# Altium footprint library con-omron.PCBLIB: 109 footprints (part 7 of 8)
Each footprint in its own frame and in the unit in brackets; x right, y up, seen from the top. Pads: shape width x height; smd on the part's side, far side on the other; paste and mask are expansions set on the pad; w line width, h text height; cw(c..) or ccw(c..) is an arc to the next point about the centre after c.
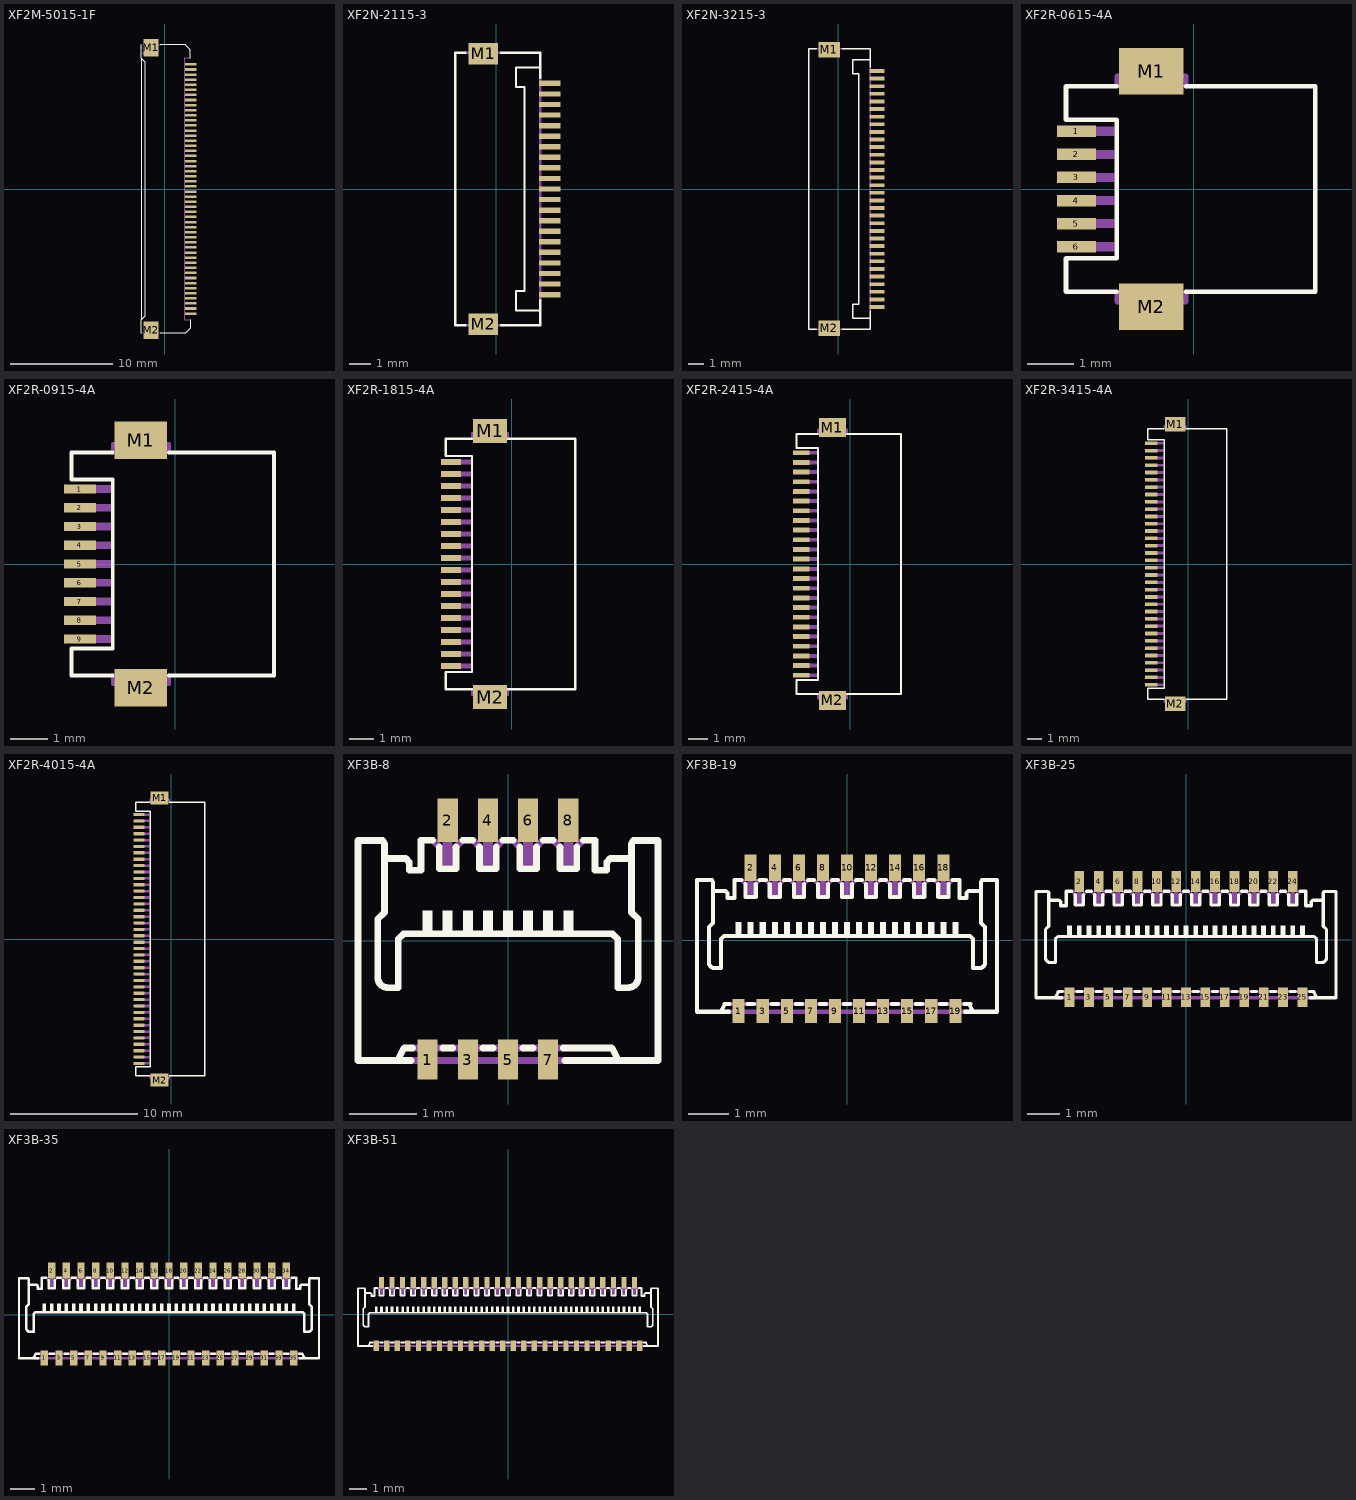
[diagram p6: the footprints below, top view; thin cyan lines are the x and y axes]

## XF2M-5015-1F [mm]
pads (52):
  rect 1.1x0.25 smd: 1(2.54,12.25) 2(2.54,11.75) 3(2.54,11.25) 4(2.54,10.75) 5(2.54,10.25) 6(2.54,9.75) 7(2.54,9.25) 8(2.54,8.75) 9(2.54,8.25) 10(2.54,7.75) 11(2.54,7.25) 12(2.54,6.75) 13(2.54,6.25) 14(2.54,5.75) 15(2.54,5.25) 16(2.54,4.75) 17(2.54,4.25) 18(2.54,3.75) 19(2.54,3.25) 20(2.54,2.75) 21(2.54,2.25) 22(2.54,1.75) 23(2.54,1.25) 24(2.54,0.75) 25(2.54,0.25) 26(2.54,-0.25) 27(2.54,-0.75) 28(2.54,-1.25) 29(2.54,-1.75) 30(2.54,-2.25) 31(2.54,-2.75) 32(2.54,-3.25) 33(2.54,-3.75) 34(2.54,-4.25) 35(2.54,-4.75) 36(2.54,-5.25) 37(2.54,-5.75) 38(2.54,-6.25) 39(2.54,-6.75) 40(2.54,-7.25) 41(2.54,-7.75) 42(2.54,-8.25) 43(2.54,-8.75) 44(2.54,-9.25) 45(2.54,-9.75) 46(2.54,-10.25) 47(2.54,-10.75) 48(2.54,-11.25) 49(2.54,-11.75) 50(2.54,-12.25)
  rect 1.5x1.7 smd: M1(-1.36,13.9) M2(-1.36,-13.9)
Top Overlay:
  lines w0.102: -2.31,-14.2 -2.31,-12.85 ; -2.31,14.2 -2.31,12.85 ; -0.46,-14.2 1.99,-14.2 2.49,-13.7 2.49,-12.85 ; -0.46,14.2 1.99,14.2 2.49,13.7 2.49,12.85 ; -2.31,-12.85 -1.91,-12.45 -1.91,12.45 -2.31,12.85 ; -2.31,-12.85 -2.31,12.85
Top Solder:
  rectangle: 1.965,12.1 3.115,12.4
  rectangle: 1.965,11.6 3.115,11.9
  rectangle: 1.965,11.1 3.115,11.4
  rectangle: 1.965,10.6 3.115,10.9
  rectangle: 1.965,10.1 3.115,10.4
  rectangle: 1.965,9.6 3.115,9.9
  rectangle: 1.965,9.1 3.115,9.4
  rectangle: 1.965,8.6 3.115,8.9
  rectangle: 1.965,8.1 3.115,8.4
  rectangle: 1.965,7.6 3.115,7.9
  rectangle: 1.965,7.1 3.115,7.4
  rectangle: 1.965,6.6 3.115,6.9
  rectangle: 1.965,6.1 3.115,6.4
  rectangle: 1.965,5.6 3.115,5.9
  rectangle: 1.965,5.1 3.115,5.4
  rectangle: 1.965,4.6 3.115,4.9
  rectangle: 1.965,4.1 3.115,4.4
  rectangle: 1.965,3.6 3.115,3.9
  rectangle: 1.965,3.1 3.115,3.4
  rectangle: 1.965,2.6 3.115,2.9
  rectangle: 1.965,2.1 3.115,2.4
  rectangle: 1.965,1.6 3.115,1.9
  rectangle: 1.965,1.1 3.115,1.4
  rectangle: 1.965,0.6 3.115,0.9
  rectangle: 1.965,0.1 3.115,0.4
  rectangle: 1.965,-0.4 3.115,-0.1
  rectangle: 1.965,-0.9 3.115,-0.6
  rectangle: 1.965,-1.4 3.115,-1.1
  rectangle: 1.965,-1.9 3.115,-1.6
  rectangle: 1.965,-2.4 3.115,-2.1
  rectangle: 1.965,-2.9 3.115,-2.6
  rectangle: 1.965,-3.4 3.115,-3.1
  rectangle: 1.965,-3.9 3.115,-3.6
  rectangle: 1.965,-4.4 3.115,-4.1
  rectangle: 1.965,-4.9 3.115,-4.6
  rectangle: 1.965,-5.4 3.115,-5.1
  rectangle: 1.965,-5.9 3.115,-5.6
  rectangle: 1.965,-6.4 3.115,-6.1
  rectangle: 1.965,-6.9 3.115,-6.6
  rectangle: 1.965,-7.4 3.115,-7.1
  rectangle: 1.965,-7.9 3.115,-7.6
  rectangle: 1.965,-8.4 3.115,-8.1
  rectangle: 1.965,-8.9 3.115,-8.6
  rectangle: 1.965,-9.4 3.115,-9.1
  rectangle: 1.965,-9.9 3.115,-9.6
  rectangle: 1.965,-10.4 3.115,-10.1
  rectangle: 1.965,-10.9 3.115,-10.6
  rectangle: 1.965,-11.4 3.115,-11.1
  rectangle: 1.965,-11.9 3.115,-11.6
  rectangle: 1.965,-12.4 3.115,-12.1
Mechanical 16:
  rectangle: 1.965,12.175 2.84,12.325
  rectangle: 1.965,11.675 2.84,11.825
  rectangle: 1.965,11.175 2.84,11.325
  rectangle: 1.965,10.675 2.84,10.825
  rectangle: 1.965,10.175 2.84,10.325
  rectangle: 1.965,9.675 2.84,9.825
  rectangle: 1.965,9.175 2.84,9.325
  rectangle: 1.965,8.675 2.84,8.825
  rectangle: 1.965,8.175 2.84,8.325
  rectangle: 1.965,7.675 2.84,7.825
  rectangle: 1.965,7.175 2.84,7.325
  rectangle: 1.965,6.675 2.84,6.825
  rectangle: 1.965,6.175 2.84,6.325
  rectangle: 1.965,5.675 2.84,5.825
  rectangle: 1.965,5.175 2.84,5.325
  rectangle: 1.965,4.675 2.84,4.825
  rectangle: 1.965,4.175 2.84,4.325
  rectangle: 1.965,3.675 2.84,3.825
  rectangle: 1.965,3.175 2.84,3.325
  rectangle: 1.965,2.675 2.84,2.825
  rectangle: 1.965,2.175 2.84,2.325
  rectangle: 1.965,1.675 2.84,1.825
  rectangle: 1.965,1.175 2.84,1.325
  rectangle: 1.965,0.675 2.84,0.825
  rectangle: 1.965,0.175 2.84,0.325
  rectangle: 1.965,-0.325 2.84,-0.175
  rectangle: 1.965,-0.825 2.84,-0.675
  rectangle: 1.965,-1.325 2.84,-1.175
  rectangle: 1.965,-1.825 2.84,-1.675
  rectangle: 1.965,-2.325 2.84,-2.175
  rectangle: 1.965,-2.825 2.84,-2.675
  rectangle: 1.965,-3.325 2.84,-3.175
  rectangle: 1.965,-3.825 2.84,-3.675
  rectangle: 1.965,-4.325 2.84,-4.175
  rectangle: 1.965,-4.825 2.84,-4.675
  rectangle: 1.965,-5.325 2.84,-5.175
  rectangle: 1.965,-5.825 2.84,-5.675
  rectangle: 1.965,-6.325 2.84,-6.175
  rectangle: 1.965,-6.825 2.84,-6.675
  rectangle: 1.965,-7.325 2.84,-7.175
  rectangle: 1.965,-7.825 2.84,-7.675
  rectangle: 1.965,-8.325 2.84,-8.175
  rectangle: 1.965,-8.825 2.84,-8.675
  rectangle: 1.965,-9.325 2.84,-9.175
  rectangle: 1.965,-9.825 2.84,-9.675
  rectangle: 1.965,-10.325 2.84,-10.175
  rectangle: 1.965,-10.825 2.84,-10.675
  rectangle: 1.965,-11.325 2.84,-11.175
  rectangle: 1.965,-11.825 2.84,-11.675
  rectangle: 1.965,-12.325 2.84,-12.175
  lines w0.102: -2.31,-14.2 -1.91,-14.2 -1.91,-14.5 -0.91,-14.5 -0.91,-14.2 -0.46,-14.2 ; -2.31,13.25 -1.71,13.6 -2.31,13.95 ; -2.31,14.2 -1.91,14.2 -1.91,14.5 -0.91,14.5 -0.91,14.2 -0.46,14.2 ; 2.49,-12.85 1.915,-12.85 1.915,12.85 2.49,12.85

## XF2N-2115-3 [mm]
pads (23):
  rect 1x0.25 smd: 1(2.54,5) 2(2.54,4.5) 3(2.54,4) 4(2.54,3.5) 5(2.54,3) 6(2.54,2.5) 7(2.54,2) 8(2.54,1.5) 9(2.54,1) 10(2.54,0.5) 11(2.54,0) 12(2.54,-0.5) 13(2.54,-1) 14(2.54,-1.5) 15(2.54,-2) 16(2.54,-2.5) 17(2.54,-3) 18(2.54,-3.5) 19(2.54,-4) 20(2.54,-4.5) 21(2.54,-5)
  rect 1.4x1 smd: M1(-0.61,6.4) M2(-0.61,-6.4)
Top Overlay:
  lines w0.102: -1.46,-6.45 -1.935,-6.45 -1.935,6.45 -1.46,6.45 ; 0.24,-6.45 2.09,-6.45 2.09,-5.25 ; 0.24,6.45 2.09,6.45 2.09,5.25 ; 2.04,-5.75 0.94,-5.75 0.94,-4.825 1.34,-4.825 1.34,4.825 0.94,4.825 0.94,5.75 2.04,5.75
Top Solder:
  rectangle: 2.015,4.85 3.065,5.15
  rectangle: 2.015,4.35 3.065,4.65
  rectangle: 2.015,3.85 3.065,4.15
  rectangle: 2.015,3.35 3.065,3.65
  rectangle: 2.015,2.85 3.065,3.15
  rectangle: 2.015,2.35 3.065,2.65
  rectangle: 2.015,1.85 3.065,2.15
  rectangle: 2.015,1.35 3.065,1.65
  rectangle: 2.015,0.85 3.065,1.15
  rectangle: 2.015,0.35 3.065,0.65
  rectangle: 2.015,-0.15 3.065,0.15
  rectangle: 2.015,-0.65 3.065,-0.35
  rectangle: 2.015,-1.15 3.065,-0.85
  rectangle: 2.015,-1.65 3.065,-1.35
  rectangle: 2.015,-2.15 3.065,-1.85
  rectangle: 2.015,-2.65 3.065,-2.35
  rectangle: 2.015,-3.15 3.065,-2.85
  rectangle: 2.015,-3.65 3.065,-3.35
  rectangle: 2.015,-4.15 3.065,-3.85
  rectangle: 2.015,-4.65 3.065,-4.35
  rectangle: 2.015,-5.15 3.065,-4.85
Mechanical 16:
  lines w0.102: -1.46,-6.45 0.24,-6.45 ; -1.46,6.45 0.24,6.45 ; -1.06,-6.5 -1.06,-6.825 -0.96,-6.825 cw(c-0.785,-6.825) -0.785,-6.65 -0.435,-6.65 cw(c-0.435,-6.825) -0.26,-6.825 -0.16,-6.825 -0.16,-6.5 ; -1.06,6.5 -1.06,6.825 -0.96,6.825 ccw(c-0.785,6.825) -0.785,6.65 -0.435,6.65 ccw(c-0.435,6.825) -0.26,6.825 -0.16,6.825 -0.16,6.5 ; 2.09,-5.25 2.09,5.25

## XF2N-3215-3 [mm]
pads (34):
  rect 1x0.25 smd: 1(2.54,7.75) 2(2.54,7.25) 3(2.54,6.75) 4(2.54,6.25) 5(2.54,5.75) 6(2.54,5.25) 7(2.54,4.75) 8(2.54,4.25) 9(2.54,3.75) 10(2.54,3.25) 11(2.54,2.75) 12(2.54,2.25) 13(2.54,1.75) 14(2.54,1.25) 15(2.54,0.75) 16(2.54,0.25) 17(2.54,-0.25) 18(2.54,-0.75) 19(2.54,-1.25) 20(2.54,-1.75) 21(2.54,-2.25) 22(2.54,-2.75) 23(2.54,-3.25) 24(2.54,-3.75) 25(2.54,-4.25) 26(2.54,-4.75) 27(2.54,-5.25) 28(2.54,-5.75) 29(2.54,-6.25) 30(2.54,-6.75) 31(2.54,-7.25) 32(2.54,-7.75)
  rect 1.4x1 smd: M1(-0.61,9.15) M2(-0.61,-9.15)
Top Overlay:
  lines w0.102: -1.46,-9.2 -1.935,-9.2 -1.935,9.2 -1.46,9.2 ; 0.24,-9.2 2.09,-9.2 2.09,-8 ; 0.24,9.2 2.09,9.2 2.09,8 ; 2.04,-8.5 0.94,-8.5 0.94,-7.575 1.34,-7.575 1.34,7.575 0.94,7.575 0.94,8.5 2.04,8.5
Top Solder:
  rectangle: 2.015,7.6 3.065,7.9
  rectangle: 2.015,7.1 3.065,7.4
  rectangle: 2.015,6.6 3.065,6.9
  rectangle: 2.015,6.1 3.065,6.4
  rectangle: 2.015,5.6 3.065,5.9
  rectangle: 2.015,5.1 3.065,5.4
  rectangle: 2.015,4.6 3.065,4.9
  rectangle: 2.015,4.1 3.065,4.4
  rectangle: 2.015,3.6 3.065,3.9
  rectangle: 2.015,3.1 3.065,3.4
  rectangle: 2.015,2.6 3.065,2.9
  rectangle: 2.015,2.1 3.065,2.4
  rectangle: 2.015,1.6 3.065,1.9
  rectangle: 2.015,1.1 3.065,1.4
  rectangle: 2.015,0.6 3.065,0.9
  rectangle: 2.015,0.1 3.065,0.4
  rectangle: 2.015,-0.4 3.065,-0.1
  rectangle: 2.015,-0.9 3.065,-0.6
  rectangle: 2.015,-1.4 3.065,-1.1
  rectangle: 2.015,-1.9 3.065,-1.6
  rectangle: 2.015,-2.4 3.065,-2.1
  rectangle: 2.015,-2.9 3.065,-2.6
  rectangle: 2.015,-3.4 3.065,-3.1
  rectangle: 2.015,-3.9 3.065,-3.6
  rectangle: 2.015,-4.4 3.065,-4.1
  rectangle: 2.015,-4.9 3.065,-4.6
  rectangle: 2.015,-5.4 3.065,-5.1
  rectangle: 2.015,-5.9 3.065,-5.6
  rectangle: 2.015,-6.4 3.065,-6.1
  rectangle: 2.015,-6.9 3.065,-6.6
  rectangle: 2.015,-7.4 3.065,-7.1
  rectangle: 2.015,-7.9 3.065,-7.6
Mechanical 16:
  lines w0.102: -1.46,-9.2 0.24,-9.2 ; -1.46,9.2 0.24,9.2 ; -1.06,-9.25 -1.06,-9.575 -0.96,-9.575 cw(c-0.785,-9.575) -0.785,-9.4 -0.435,-9.4 cw(c-0.435,-9.575) -0.26,-9.575 -0.16,-9.575 -0.16,-9.25 ; -1.06,9.25 -1.06,9.575 -0.96,9.575 ccw(c-0.785,9.575) -0.785,9.4 -0.435,9.4 ccw(c-0.435,9.575) -0.26,9.575 -0.16,9.575 -0.16,9.25 ; 2.09,-8 2.09,8

## XF2R-0615-4A [mm]
pads (8):
  rect 0.85x0.25 smd: 1(-2.54,1.25) 2(-2.54,0.75) 3(-2.54,0.25) 4(-2.54,-0.25) 5(-2.54,-0.75) 6(-2.54,-1.25)
  rect 1.4x1 smd: M1(-0.915,2.55) M2(-0.915,-2.55)
Top Overlay:
  lines w0.102: -1.665,-2.225 -2.765,-2.225 -2.765,-1.5 -1.665,-1.5 -1.665,1.5 -2.765,1.5 -2.765,2.225 -1.665,2.225 ; -0.165,-2.225 2.635,-2.225 2.635,2.225 -0.165,2.225
Mechanical 16:
  rectangle: -2.815,1.15 -1.715,1.35
  rectangle: -2.815,0.65 -1.715,0.85
  rectangle: -2.815,0.15 -1.715,0.35
  rectangle: -2.815,-0.35 -1.715,-0.15
  rectangle: -2.815,-0.85 -1.715,-0.65
  rectangle: -2.815,-1.35 -1.715,-1.15
  lines w0.102: -1.665,-2.225 -1.665,-2.45 -1.365,-2.45 -1.365,-2.95 -1.265,-2.95 -1.165,-2.85 -0.665,-2.85 -0.565,-2.95 -0.465,-2.95 -0.465,-2.45 -0.165,-2.45 -0.165,-2.225 ; -1.665,2.225 -1.665,2.45 -1.365,2.45 -1.365,2.95 -1.265,2.95 -1.165,2.85 -0.665,2.85 -0.565,2.95 -0.465,2.95 -0.465,2.45 -0.165,2.45 -0.165,2.225
Via Holes:
  region: 0.585,1.375 -2.09,1.375 -2.09,-1.375 0.585,-1.375

## XF2R-0915-4A [mm]
pads (11):
  rect 0.85x0.25 smd: 1(-2.54,2) 2(-2.54,1.5) 3(-2.54,1) 4(-2.54,0.5) 5(-2.54,0) 6(-2.54,-0.5) 7(-2.54,-1) 8(-2.54,-1.5) 9(-2.54,-2)
  rect 1.4x1 smd: M1(-0.915,3.3) M2(-0.915,-3.3)
Top Overlay:
  lines w0.102: -1.665,-2.975 -2.765,-2.975 -2.765,-2.25 -1.665,-2.25 -1.665,2.25 -2.765,2.25 -2.765,2.975 -1.665,2.975 ; -0.165,-2.975 2.635,-2.975 2.635,2.975 -0.165,2.975
Mechanical 16:
  rectangle: -2.815,1.9 -1.715,2.1
  rectangle: -2.815,1.4 -1.715,1.6
  rectangle: -2.815,0.9 -1.715,1.1
  rectangle: -2.815,0.4 -1.715,0.6
  rectangle: -2.815,-0.1 -1.715,0.1
  rectangle: -2.815,-0.6 -1.715,-0.4
  rectangle: -2.815,-1.1 -1.715,-0.9
  rectangle: -2.815,-1.6 -1.715,-1.4
  rectangle: -2.815,-2.1 -1.715,-1.9
  lines w0.102: -1.665,-2.975 -1.665,-3.2 -1.365,-3.2 -1.365,-3.7 -1.265,-3.7 -1.165,-3.6 -0.665,-3.6 -0.565,-3.7 -0.465,-3.7 -0.465,-3.2 -0.165,-3.2 -0.165,-2.975 ; -1.665,2.975 -1.665,3.2 -1.365,3.2 -1.365,3.7 -1.265,3.7 -1.165,3.6 -0.665,3.6 -0.565,3.7 -0.465,3.7 -0.465,3.2 -0.165,3.2 -0.165,2.975
Via Holes:
  region: 0.585,2.125 -2.09,2.125 -2.09,-2.125 0.585,-2.125

## XF2R-1815-4A [mm]
pads (20):
  rect 0.85x0.25 smd: 1(-2.54,4.25) 2(-2.54,3.75) 3(-2.54,3.25) 4(-2.54,2.75) 5(-2.54,2.25) 6(-2.54,1.75) 7(-2.54,1.25) 8(-2.54,0.75) 9(-2.54,0.25) 10(-2.54,-0.25) 11(-2.54,-0.75) 12(-2.54,-1.25) 13(-2.54,-1.75) 14(-2.54,-2.25) 15(-2.54,-2.75) 16(-2.54,-3.25) 17(-2.54,-3.75) 18(-2.54,-4.25)
  rect 1.4x1 smd: M1(-0.915,5.55) M2(-0.915,-5.55)
Top Overlay:
  lines w0.102: -1.665,-5.225 -2.765,-5.225 -2.765,-4.5 -1.665,-4.5 -1.665,4.5 -2.765,4.5 -2.765,5.225 -1.665,5.225 ; -0.165,-5.225 2.635,-5.225 2.635,5.225 -0.165,5.225
Mechanical 16:
  rectangle: -2.815,4.15 -1.715,4.35
  rectangle: -2.815,3.65 -1.715,3.85
  rectangle: -2.815,3.15 -1.715,3.35
  rectangle: -2.815,2.65 -1.715,2.85
  rectangle: -2.815,2.15 -1.715,2.35
  rectangle: -2.815,1.65 -1.715,1.85
  rectangle: -2.815,1.15 -1.715,1.35
  rectangle: -2.815,0.65 -1.715,0.85
  rectangle: -2.815,0.15 -1.715,0.35
  rectangle: -2.815,-0.35 -1.715,-0.15
  rectangle: -2.815,-0.85 -1.715,-0.65
  rectangle: -2.815,-1.35 -1.715,-1.15
  rectangle: -2.815,-1.85 -1.715,-1.65
  rectangle: -2.815,-2.35 -1.715,-2.15
  rectangle: -2.815,-2.85 -1.715,-2.65
  rectangle: -2.815,-3.35 -1.715,-3.15
  rectangle: -2.815,-3.85 -1.715,-3.65
  rectangle: -2.815,-4.35 -1.715,-4.15
  lines w0.102: -1.665,-5.225 -1.665,-5.45 -1.365,-5.45 -1.365,-5.95 -1.265,-5.95 -1.165,-5.85 -0.665,-5.85 -0.565,-5.95 -0.465,-5.95 -0.465,-5.45 -0.165,-5.45 -0.165,-5.225 ; -1.665,5.225 -1.665,5.45 -1.365,5.45 -1.365,5.95 -1.265,5.95 -1.165,5.85 -0.665,5.85 -0.565,5.95 -0.465,5.95 -0.465,5.45 -0.165,5.45 -0.165,5.225
Via Holes:
  region: 0.585,4.375 -2.09,4.375 -2.09,-4.375 0.585,-4.375

## XF2R-2415-4A [mm]
pads (26):
  rect 0.85x0.25 smd: 1(-2.54,5.75) 2(-2.54,5.25) 3(-2.54,4.75) 4(-2.54,4.25) 5(-2.54,3.75) 6(-2.54,3.25) 7(-2.54,2.75) 8(-2.54,2.25) 9(-2.54,1.75) 10(-2.54,1.25) 11(-2.54,0.75) 12(-2.54,0.25) 13(-2.54,-0.25) 14(-2.54,-0.75) 15(-2.54,-1.25) 16(-2.54,-1.75) 17(-2.54,-2.25) 18(-2.54,-2.75) 19(-2.54,-3.25) 20(-2.54,-3.75) 21(-2.54,-4.25) 22(-2.54,-4.75) 23(-2.54,-5.25) 24(-2.54,-5.75)
  rect 1.4x1 smd: M1(-0.915,7.05) M2(-0.915,-7.05)
Top Overlay:
  lines w0.102: -1.665,-6.725 -2.765,-6.725 -2.765,-6 -1.665,-6 -1.665,6 -2.765,6 -2.765,6.725 -1.665,6.725 ; -0.165,-6.725 2.635,-6.725 2.635,6.725 -0.165,6.725
Mechanical 16:
  rectangle: -2.815,5.65 -1.715,5.85
  rectangle: -2.815,5.15 -1.715,5.35
  rectangle: -2.815,4.65 -1.715,4.85
  rectangle: -2.815,4.15 -1.715,4.35
  rectangle: -2.815,3.65 -1.715,3.85
  rectangle: -2.815,3.15 -1.715,3.35
  rectangle: -2.815,2.65 -1.715,2.85
  rectangle: -2.815,2.15 -1.715,2.35
  rectangle: -2.815,1.65 -1.715,1.85
  rectangle: -2.815,1.15 -1.715,1.35
  rectangle: -2.815,0.65 -1.715,0.85
  rectangle: -2.815,0.15 -1.715,0.35
  rectangle: -2.815,-0.35 -1.715,-0.15
  rectangle: -2.815,-0.85 -1.715,-0.65
  rectangle: -2.815,-1.35 -1.715,-1.15
  rectangle: -2.815,-1.85 -1.715,-1.65
  rectangle: -2.815,-2.35 -1.715,-2.15
  rectangle: -2.815,-2.85 -1.715,-2.65
  rectangle: -2.815,-3.35 -1.715,-3.15
  rectangle: -2.815,-3.85 -1.715,-3.65
  rectangle: -2.815,-4.35 -1.715,-4.15
  rectangle: -2.815,-4.85 -1.715,-4.65
  rectangle: -2.815,-5.35 -1.715,-5.15
  rectangle: -2.815,-5.85 -1.715,-5.65
  lines w0.102: -1.665,-6.725 -1.665,-6.95 -1.365,-6.95 -1.365,-7.45 -1.265,-7.45 -1.165,-7.35 -0.665,-7.35 -0.565,-7.45 -0.465,-7.45 -0.465,-6.95 -0.165,-6.95 -0.165,-6.725 ; -1.665,6.725 -1.665,6.95 -1.365,6.95 -1.365,7.45 -1.265,7.45 -1.165,7.35 -0.665,7.35 -0.565,7.45 -0.465,7.45 -0.465,6.95 -0.165,6.95 -0.165,6.725
Via Holes:
  region: 0.585,5.875 -2.09,5.875 -2.09,-5.875 0.585,-5.875

## XF2R-3415-4A [mm]
pads (36):
  rect 0.85x0.25 smd: 1(-2.54,8.25) 2(-2.54,7.75) 3(-2.54,7.25) 4(-2.54,6.75) 5(-2.54,6.25) 6(-2.54,5.75) 7(-2.54,5.25) 8(-2.54,4.75) 9(-2.54,4.25) 10(-2.54,3.75) 11(-2.54,3.25) 12(-2.54,2.75) 13(-2.54,2.25) 14(-2.54,1.75) 15(-2.54,1.25) 16(-2.54,0.75) 17(-2.54,0.25) 18(-2.54,-0.25) 19(-2.54,-0.75) 20(-2.54,-1.25) 21(-2.54,-1.75) 22(-2.54,-2.25) 23(-2.54,-2.75) 24(-2.54,-3.25) 25(-2.54,-3.75) 26(-2.54,-4.25) 27(-2.54,-4.75) 28(-2.54,-5.25) 29(-2.54,-5.75) 30(-2.54,-6.25) 31(-2.54,-6.75) 32(-2.54,-7.25) 33(-2.54,-7.75) 34(-2.54,-8.25)
  rect 1.4x1 smd: M1(-0.915,9.55) M2(-0.915,-9.55)
Top Overlay:
  lines w0.102: -1.665,-9.225 -2.765,-9.225 -2.765,-8.5 -1.665,-8.5 -1.665,8.5 -2.765,8.5 -2.765,9.225 -1.665,9.225 ; -0.165,-9.225 2.635,-9.225 2.635,9.225 -0.165,9.225
Mechanical 16:
  rectangle: -2.815,8.15 -1.715,8.35
  rectangle: -2.815,7.65 -1.715,7.85
  rectangle: -2.815,7.15 -1.715,7.35
  rectangle: -2.815,6.65 -1.715,6.85
  rectangle: -2.815,6.15 -1.715,6.35
  rectangle: -2.815,5.65 -1.715,5.85
  rectangle: -2.815,5.15 -1.715,5.35
  rectangle: -2.815,4.65 -1.715,4.85
  rectangle: -2.815,4.15 -1.715,4.35
  rectangle: -2.815,3.65 -1.715,3.85
  rectangle: -2.815,3.15 -1.715,3.35
  rectangle: -2.815,2.65 -1.715,2.85
  rectangle: -2.815,2.15 -1.715,2.35
  rectangle: -2.815,1.65 -1.715,1.85
  rectangle: -2.815,1.15 -1.715,1.35
  rectangle: -2.815,0.65 -1.715,0.85
  rectangle: -2.815,0.15 -1.715,0.35
  rectangle: -2.815,-0.35 -1.715,-0.15
  rectangle: -2.815,-0.85 -1.715,-0.65
  rectangle: -2.815,-1.35 -1.715,-1.15
  rectangle: -2.815,-1.85 -1.715,-1.65
  rectangle: -2.815,-2.35 -1.715,-2.15
  rectangle: -2.815,-2.85 -1.715,-2.65
  rectangle: -2.815,-3.35 -1.715,-3.15
  rectangle: -2.815,-3.85 -1.715,-3.65
  rectangle: -2.815,-4.35 -1.715,-4.15
  rectangle: -2.815,-4.85 -1.715,-4.65
  rectangle: -2.815,-5.35 -1.715,-5.15
  rectangle: -2.815,-5.85 -1.715,-5.65
  rectangle: -2.815,-6.35 -1.715,-6.15
  rectangle: -2.815,-6.85 -1.715,-6.65
  rectangle: -2.815,-7.35 -1.715,-7.15
  rectangle: -2.815,-7.85 -1.715,-7.65
  rectangle: -2.815,-8.35 -1.715,-8.15
  lines w0.102: -1.665,-9.225 -1.665,-9.45 -1.365,-9.45 -1.365,-9.95 -1.265,-9.95 -1.165,-9.85 -0.665,-9.85 -0.565,-9.95 -0.465,-9.95 -0.465,-9.45 -0.165,-9.45 -0.165,-9.225 ; -1.665,9.225 -1.665,9.45 -1.365,9.45 -1.365,9.95 -1.265,9.95 -1.165,9.85 -0.665,9.85 -0.565,9.95 -0.465,9.95 -0.465,9.45 -0.165,9.45 -0.165,9.225
Via Holes:
  region: 0.585,8.375 -2.09,8.375 -2.09,-8.375 0.585,-8.375

## XF2R-4015-4A [mm]
pads (42):
  rect 0.85x0.25 smd: 1(-2.54,9.75) 2(-2.54,9.25) 3(-2.54,8.75) 4(-2.54,8.25) 5(-2.54,7.75) 6(-2.54,7.25) 7(-2.54,6.75) 8(-2.54,6.25) 9(-2.54,5.75) 10(-2.54,5.25) 11(-2.54,4.75) 12(-2.54,4.25) 13(-2.54,3.75) 14(-2.54,3.25) 15(-2.54,2.75) 16(-2.54,2.25) 17(-2.54,1.75) 18(-2.54,1.25) 19(-2.54,0.75) 20(-2.54,0.25) 21(-2.54,-0.25) 22(-2.54,-0.75) 23(-2.54,-1.25) 24(-2.54,-1.75) 25(-2.54,-2.25) 26(-2.54,-2.75) 27(-2.54,-3.25) 28(-2.54,-3.75) 29(-2.54,-4.25) 30(-2.54,-4.75) 31(-2.54,-5.25) 32(-2.54,-5.75) 33(-2.54,-6.25) 34(-2.54,-6.75) 35(-2.54,-7.25) 36(-2.54,-7.75) 37(-2.54,-8.25) 38(-2.54,-8.75) 39(-2.54,-9.25) 40(-2.54,-9.75)
  rect 1.4x1 smd: M1(-0.915,11.05) M2(-0.915,-11.05)
Top Overlay:
  lines w0.102: -1.665,-10.725 -2.765,-10.725 -2.765,-10 -1.665,-10 -1.665,10 -2.765,10 -2.765,10.725 -1.665,10.725 ; -0.165,-10.725 2.635,-10.725 2.635,10.725 -0.165,10.725
Top Solder:
  rectangle: -2.99,9.6 -2.09,9.9
  rectangle: -2.99,9.1 -2.09,9.4
  rectangle: -2.99,8.6 -2.09,8.9
  rectangle: -2.99,8.1 -2.09,8.4
  rectangle: -2.99,7.6 -2.09,7.9
  rectangle: -2.99,7.1 -2.09,7.4
  rectangle: -2.99,6.6 -2.09,6.9
  rectangle: -2.99,6.1 -2.09,6.4
  rectangle: -2.99,5.6 -2.09,5.9
  rectangle: -2.99,5.1 -2.09,5.4
  rectangle: -2.99,4.6 -2.09,4.9
  rectangle: -2.99,4.1 -2.09,4.4
  rectangle: -2.99,3.6 -2.09,3.9
  rectangle: -2.99,3.1 -2.09,3.4
  rectangle: -2.99,2.6 -2.09,2.9
  rectangle: -2.99,2.1 -2.09,2.4
  rectangle: -2.99,1.6 -2.09,1.9
  rectangle: -2.99,1.1 -2.09,1.4
  rectangle: -2.99,0.6 -2.09,0.9
  rectangle: -2.99,0.1 -2.09,0.4
  rectangle: -2.99,-0.4 -2.09,-0.1
  rectangle: -2.99,-0.9 -2.09,-0.6
  rectangle: -2.99,-1.4 -2.09,-1.1
  rectangle: -2.99,-1.9 -2.09,-1.6
  rectangle: -2.99,-2.4 -2.09,-2.1
  rectangle: -2.99,-2.9 -2.09,-2.6
  rectangle: -2.99,-3.4 -2.09,-3.1
  rectangle: -2.99,-3.9 -2.09,-3.6
  rectangle: -2.99,-4.4 -2.09,-4.1
  rectangle: -2.99,-4.9 -2.09,-4.6
  rectangle: -2.99,-5.4 -2.09,-5.1
  rectangle: -2.99,-5.9 -2.09,-5.6
  rectangle: -2.99,-6.4 -2.09,-6.1
  rectangle: -2.99,-6.9 -2.09,-6.6
  rectangle: -2.99,-7.4 -2.09,-7.1
  rectangle: -2.99,-7.9 -2.09,-7.6
  rectangle: -2.99,-8.4 -2.09,-8.1
  rectangle: -2.99,-8.9 -2.09,-8.6
  rectangle: -2.99,-9.4 -2.09,-9.1
  rectangle: -2.99,-9.9 -2.09,-9.6
Mechanical 16:
  rectangle: -2.815,9.65 -1.715,9.85
  rectangle: -2.815,9.15 -1.715,9.35
  rectangle: -2.815,8.65 -1.715,8.85
  rectangle: -2.815,8.15 -1.715,8.35
  rectangle: -2.815,7.65 -1.715,7.85
  rectangle: -2.815,7.15 -1.715,7.35
  rectangle: -2.815,6.65 -1.715,6.85
  rectangle: -2.815,6.15 -1.715,6.35
  rectangle: -2.815,5.65 -1.715,5.85
  rectangle: -2.815,5.15 -1.715,5.35
  rectangle: -2.815,4.65 -1.715,4.85
  rectangle: -2.815,4.15 -1.715,4.35
  rectangle: -2.815,3.65 -1.715,3.85
  rectangle: -2.815,3.15 -1.715,3.35
  rectangle: -2.815,2.65 -1.715,2.85
  rectangle: -2.815,2.15 -1.715,2.35
  rectangle: -2.815,1.65 -1.715,1.85
  rectangle: -2.815,1.15 -1.715,1.35
  rectangle: -2.815,0.65 -1.715,0.85
  rectangle: -2.815,0.15 -1.715,0.35
  rectangle: -2.815,-0.35 -1.715,-0.15
  rectangle: -2.815,-0.85 -1.715,-0.65
  rectangle: -2.815,-1.35 -1.715,-1.15
  rectangle: -2.815,-1.85 -1.715,-1.65
  rectangle: -2.815,-2.35 -1.715,-2.15
  rectangle: -2.815,-2.85 -1.715,-2.65
  rectangle: -2.815,-3.35 -1.715,-3.15
  rectangle: -2.815,-3.85 -1.715,-3.65
  rectangle: -2.815,-4.35 -1.715,-4.15
  rectangle: -2.815,-4.85 -1.715,-4.65
  rectangle: -2.815,-5.35 -1.715,-5.15
  rectangle: -2.815,-5.85 -1.715,-5.65
  rectangle: -2.815,-6.35 -1.715,-6.15
  rectangle: -2.815,-6.85 -1.715,-6.65
  rectangle: -2.815,-7.35 -1.715,-7.15
  rectangle: -2.815,-7.85 -1.715,-7.65
  rectangle: -2.815,-8.35 -1.715,-8.15
  rectangle: -2.815,-8.85 -1.715,-8.65
  rectangle: -2.815,-9.35 -1.715,-9.15
  rectangle: -2.815,-9.85 -1.715,-9.65
  lines w0.102: -1.665,-10.725 -1.665,-10.95 -1.365,-10.95 -1.365,-11.45 -1.265,-11.45 -1.165,-11.35 -0.665,-11.35 -0.565,-11.45 -0.465,-11.45 -0.465,-10.95 -0.165,-10.95 -0.165,-10.725 ; -1.665,10.725 -1.665,10.95 -1.365,10.95 -1.365,11.45 -1.265,11.45 -1.165,11.35 -0.665,11.35 -0.565,11.45 -0.465,11.45 -0.465,10.95 -0.165,10.95 -0.165,10.725
Via Holes:
  region: 0.585,9.875 -2.09,9.875 -2.09,-9.875 0.585,-9.875

## XF3B-8 [mm]
pads (8):
  rect 0.3x0.6 smd: 1(-1.2,-1.775) 3(-0.6,-1.775) 5(0,-1.775) 7(0.6,-1.775)
  rect 0.3x0.65 smd: 2(-0.9,1.8) 4(-0.3,1.8) 6(0.3,1.8) 8(0.9,1.8)
Top Overlay:
  rectangle: -1.275,0.125 -1.125,0.45
  rectangle: -0.975,0.125 -0.825,0.45
  rectangle: -0.675,0.125 -0.525,0.45
  rectangle: -0.375,0.125 -0.225,0.45
  rectangle: -0.075,0.125 0.075,0.45
  rectangle: 0.225,0.125 0.375,0.45
  rectangle: 0.525,0.125 0.675,0.45
  rectangle: 0.825,0.125 0.975,0.45
  lines w0.102: -1.775,1.225 -1.525,1.225 -1.475,1.175 -1.475,1.05 -1.3,1.05 -1.3,1.5 -1.125,1.5 ; -1.625,-1.751 -1.55,-1.6 -1.425,-1.6 ; -1.447,-1.789 -2.239,-1.789 -2.239,1.495 -1.868,1.495 -1.843,1.444 -1.843,0.422 -1.945,0.32 -1.945,-0.549 ccw(c-1.791,-0.549) -1.791,-0.703 -1.638,-0.703 -1.638,0.026 -1.562,0.102 1.562,0.102 1.638,0.026 1.638,-0.703 1.791,-0.703 ccw(c1.791,-0.549) 1.945,-0.549 1.945,0.32 1.843,0.422 1.843,1.444 1.868,1.495 2.239,1.495 2.239,-1.789 0.847,-1.789 ; -1.025,1.4 -1.025,1.075 -0.775,1.075 -0.775,1.4 ; -0.975,-1.6 -0.825,-1.6 ; -0.675,1.5 -0.525,1.5 ; -0.425,1.4 -0.425,1.075 -0.175,1.075 -0.175,1.4 ; -0.375,-1.6 -0.225,-1.6 ; -0.075,1.5 0.075,1.5 ; 0.175,1.4 0.175,1.075 0.425,1.075 0.425,1.4 ; 0.225,-1.6 0.375,-1.6 ; 0.525,1.5 0.675,1.5 ; 0.775,1.4 0.775,1.075 1.025,1.075 1.025,1.4 ; 0.825,-1.6 1.55,-1.6 1.625,-1.751 ; 1.125,1.5 1.3,1.5 1.3,1.05 1.475,1.05 1.475,1.175 1.525,1.225 1.775,1.225
Top Paste:
  rectangle: -1.025,1.5 -0.775,2.1
  rectangle: -1.325,-2.05 -1.075,-1.5
  rectangle: -0.725,-2.05 -0.475,-1.5
  rectangle: -0.125,-2.05 0.125,-1.5
  rectangle: 0.475,-2.05 0.725,-1.5
  rectangle: -0.425,1.5 -0.175,2.1
  rectangle: 0.175,1.5 0.425,2.1
  rectangle: 0.775,1.5 1.025,2.1
Top Solder:
  rectangle: -1.1,1.425 -0.7,2.175
  rectangle: -1.4,-2.125 -1,-1.425
  rectangle: -0.8,-2.125 -0.4,-1.425
  rectangle: -0.2,-2.125 0.2,-1.425
  rectangle: 0.4,-2.125 0.8,-1.425
  rectangle: -0.5,1.425 -0.1,2.175
  rectangle: 0.1,1.425 0.5,2.175
  rectangle: 0.7,1.425 1.1,2.175
Mechanical 16:
  rectangle: -1.275,-1.85 -1.125,-1.648
  rectangle: -0.654,-1.84 -0.539,-1.648
  rectangle: -0.975,1.125 -0.825,1.95
  rectangle: -0.375,1.125 -0.225,1.95
  rectangle: 0.225,1.125 0.375,1.95
  rectangle: 0.825,1.125 0.975,1.95
  lines w0.102: -1.639,-1.789 0.954,-1.789 ; -1.425,-1.6 -0.975,-1.6 ; -1.125,1.5 -1.025,1.4 ; -0.825,-1.6 -0.375,-1.6 ; -0.775,1.4 -0.675,1.5 ; -0.525,1.5 -0.425,1.4 ; -0.225,-1.6 0.225,-1.6 ; -0.175,1.4 -0.075,1.5 ; 0.075,1.5 0.175,1.4 ; 0.375,-1.6 0.825,-1.6 ; 0.425,1.4 0.525,1.5 ; 0.675,1.5 0.775,1.4 ; 1.025,1.4 1.125,1.5

## XF3B-19 [mm]
pads (19):
  rect 0.3x0.6 smd: 1(-2.7,-1.775) 3(-2.1,-1.775) 5(-1.5,-1.775) 7(-0.9,-1.775) 9(-0.3,-1.775) 11(0.3,-1.775) 13(0.9,-1.775) 15(1.5,-1.775) 17(2.1,-1.775) 19(2.7,-1.775)
  rect 0.3x0.65 smd: 2(-2.4,1.8) 4(-1.8,1.8) 6(-1.2,1.8) 8(-0.6,1.8) 10(0,1.8) 12(0.6,1.8) 14(1.2,1.8) 16(1.8,1.8) 18(2.4,1.8)
Top Overlay:
  rectangle: -2.775,0.125 -2.625,0.45
  rectangle: -2.475,0.125 -2.325,0.45
  rectangle: -2.175,0.125 -2.025,0.45
  rectangle: -1.875,0.125 -1.725,0.45
  rectangle: -1.575,0.125 -1.425,0.45
  rectangle: -1.275,0.125 -1.125,0.45
  rectangle: -0.975,0.125 -0.825,0.45
  rectangle: -0.675,0.125 -0.525,0.45
  rectangle: -0.375,0.125 -0.225,0.45
  rectangle: -0.075,0.125 0.075,0.45
  rectangle: 0.225,0.125 0.375,0.45
  rectangle: 0.525,0.125 0.675,0.45
  rectangle: 0.825,0.125 0.975,0.45
  rectangle: 1.125,0.125 1.275,0.45
  rectangle: 1.425,0.125 1.575,0.45
  rectangle: 1.725,0.125 1.875,0.45
  rectangle: 2.025,0.125 2.175,0.45
  rectangle: 2.325,0.125 2.475,0.45
  rectangle: 2.625,0.125 2.775,0.45
  lines w0.102: -3.275,1.225 -3.025,1.225 -2.975,1.175 -2.975,1.05 -2.8,1.05 -2.8,1.5 -2.625,1.5 ; -3.125,-1.751 -3.05,-1.6 -2.925,-1.6 ; -2.946,-1.789 -3.739,-1.789 -3.739,1.495 -3.368,1.495 -3.343,1.444 -3.343,0.422 -3.445,0.32 -3.445,-0.549 ccw(c-3.292,-0.549) -3.292,-0.703 -3.138,-0.703 -3.138,0.026 -3.061,0.102 3.061,0.102 3.138,0.026 3.138,-0.703 3.292,-0.703 ccw(c3.292,-0.549) 3.445,-0.549 3.445,0.32 3.343,0.422 3.343,1.444 3.368,1.495 3.739,1.495 3.739,-1.789 2.946,-1.789 ; -2.525,1.4 -2.525,1.075 -2.275,1.075 -2.275,1.4 ; -2.475,-1.6 -2.325,-1.6 ; -2.175,1.5 -2.025,1.5 ; -1.925,1.4 -1.925,1.075 -1.675,1.075 -1.675,1.4 ; -1.875,-1.6 -1.725,-1.6 ; -1.575,1.5 -1.425,1.5 ; -1.325,1.4 -1.325,1.075 -1.075,1.075 -1.075,1.4 ; -1.275,-1.6 -1.125,-1.6 ; -0.975,1.5 -0.825,1.5 ; -0.725,1.4 -0.725,1.075 -0.475,1.075 -0.475,1.4 ; -0.675,-1.6 -0.525,-1.6 ; -0.375,1.5 -0.225,1.5 ; -0.125,1.4 -0.125,1.075 0.125,1.075 0.125,1.4 ; -0.075,-1.6 0.075,-1.6 ; 0.225,1.5 0.375,1.5 ; 0.475,1.4 0.475,1.075 0.725,1.075 0.725,1.4 ; 0.525,-1.6 0.675,-1.6 ; 0.825,1.5 0.975,1.5 ; 1.075,1.4 1.075,1.075 1.325,1.075 1.325,1.4 ; 1.125,-1.6 1.275,-1.6 ; 1.425,1.5 1.575,1.5 ; 1.675,1.4 1.675,1.075 1.925,1.075 1.925,1.4 ; 1.725,-1.6 1.875,-1.6 ; 2.025,1.5 2.175,1.5 ; 2.275,1.4 2.275,1.075 2.525,1.075 2.525,1.4 ; 2.325,-1.6 2.475,-1.6 ; 2.625,1.5 2.8,1.5 2.8,1.05 2.975,1.05 2.975,1.175 3.025,1.225 3.275,1.225 ; 2.925,-1.6 3.05,-1.6 ; 3.075,-1.6 3.05,-1.6 ; 3.125,-1.751 3.05,-1.6
Top Paste:
  rectangle: -2.525,1.5 -2.275,2.1
  rectangle: -2.825,-2.05 -2.575,-1.5
  rectangle: -2.225,-2.05 -1.975,-1.5
  rectangle: -1.625,-2.05 -1.375,-1.5
  rectangle: -1.025,-2.05 -0.775,-1.5
  rectangle: -0.425,-2.05 -0.175,-1.5
  rectangle: 0.175,-2.05 0.425,-1.5
  rectangle: 0.775,-2.05 1.025,-1.5
  rectangle: 1.375,-2.05 1.625,-1.5
  rectangle: 1.975,-2.05 2.225,-1.5
  rectangle: 2.575,-2.05 2.825,-1.5
  rectangle: -1.925,1.5 -1.675,2.1
  rectangle: -1.325,1.5 -1.075,2.1
  rectangle: -0.725,1.5 -0.475,2.1
  rectangle: -0.125,1.5 0.125,2.1
  rectangle: 0.475,1.5 0.725,2.1
  rectangle: 1.075,1.5 1.325,2.1
  rectangle: 1.675,1.5 1.925,2.1
  rectangle: 2.275,1.5 2.525,2.1
Top Solder:
  rectangle: -2.6,1.425 -2.2,2.175
  rectangle: -2.9,-2.125 -2.5,-1.425
  rectangle: -2.3,-2.125 -1.9,-1.425
  rectangle: -1.7,-2.125 -1.3,-1.425
  rectangle: -1.1,-2.125 -0.7,-1.425
  rectangle: -0.5,-2.125 -0.1,-1.425
  rectangle: 0.1,-2.125 0.5,-1.425
  rectangle: 0.7,-2.125 1.1,-1.425
  rectangle: 1.3,-2.125 1.7,-1.425
  rectangle: 1.9,-2.125 2.3,-1.425
  rectangle: 2.5,-2.125 2.9,-1.425
  rectangle: -2,1.425 -1.6,2.175
  rectangle: -1.4,1.425 -1,2.175
  rectangle: -0.8,1.425 -0.4,2.175
  rectangle: -0.2,1.425 0.2,2.175
  rectangle: 0.4,1.425 0.8,2.175
  rectangle: 1,1.425 1.4,2.175
  rectangle: 1.6,1.425 2,2.175
  rectangle: 2.2,1.425 2.6,2.175
Mechanical 16:
  rectangle: -2.775,-1.85 -2.625,-1.648
  rectangle: -2.154,-1.84 -2.039,-1.648
  rectangle: -2.475,1.125 -2.325,1.95
  rectangle: -1.875,1.125 -1.725,1.95
  rectangle: -1.275,1.125 -1.125,1.95
  rectangle: -0.675,1.125 -0.525,1.95
  rectangle: -0.075,1.125 0.075,1.95
  rectangle: 0.525,1.125 0.675,1.95
  rectangle: 1.125,1.125 1.275,1.95
  rectangle: 1.725,1.125 1.875,1.95
  rectangle: 2.325,1.125 2.475,1.95
  lines w0.102: -3.139,-1.789 3.054,-1.789 ; -2.925,-1.6 -2.475,-1.6 ; -2.625,1.5 -2.525,1.4 ; -2.325,-1.6 -1.875,-1.6 ; -2.275,1.4 -2.175,1.5 ; -2.025,1.5 -1.925,1.4 ; -1.725,-1.6 -1.275,-1.6 ; -1.675,1.4 -1.575,1.5 ; -1.425,1.5 -1.325,1.4 ; -1.125,-1.6 -0.675,-1.6 ; -1.075,1.4 -0.975,1.5 ; -0.825,1.5 -0.725,1.4 ; -0.525,-1.6 -0.075,-1.6 ; -0.475,1.4 -0.375,1.5 ; -0.225,1.5 -0.125,1.4 ; 0.075,-1.6 0.525,-1.6 ; 0.125,1.4 0.225,1.5 ; 0.375,1.5 0.475,1.4 ; 0.675,-1.6 1.125,-1.6 ; 0.725,1.4 0.825,1.5 ; 0.975,1.5 1.075,1.4 ; 1.275,-1.6 1.725,-1.6 ; 1.325,1.4 1.425,1.5 ; 1.575,1.5 1.675,1.4 ; 1.875,-1.6 2.325,-1.6 ; 1.925,1.4 2.025,1.5 ; 2.175,1.5 2.275,1.4 ; 2.475,-1.6 2.925,-1.6 ; 2.525,1.4 2.625,1.5

## XF3B-25 [mm]
pads (25):
  rect 0.3x0.6 smd: 1(-3.6,-1.775) 3(-3,-1.775) 5(-2.4,-1.775) 7(-1.8,-1.775) 9(-1.2,-1.775) 11(-0.6,-1.775) 13(0,-1.775) 15(0.6,-1.775) 17(1.2,-1.775) 19(1.8,-1.775) 21(2.4,-1.775) 23(3,-1.775) 25(3.6,-1.775)
  rect 0.3x0.65 smd: 2(-3.3,1.8) 4(-2.7,1.8) 6(-2.1,1.8) 8(-1.5,1.8) 10(-0.9,1.8) 12(-0.3,1.8) 14(0.3,1.8) 16(0.9,1.8) 18(1.5,1.8) 20(2.1,1.8) 22(2.7,1.8) 24(3.3,1.8)
Top Overlay:
  rectangle: -3.675,0.125 -3.525,0.45
  rectangle: -3.375,0.125 -3.225,0.45
  rectangle: -3.075,0.125 -2.925,0.45
  rectangle: -2.775,0.125 -2.625,0.45
  rectangle: -2.475,0.125 -2.325,0.45
  rectangle: -2.175,0.125 -2.025,0.45
  rectangle: -1.875,0.125 -1.725,0.45
  rectangle: -1.575,0.125 -1.425,0.45
  rectangle: -1.275,0.125 -1.125,0.45
  rectangle: -0.975,0.125 -0.825,0.45
  rectangle: -0.675,0.125 -0.525,0.45
  rectangle: -0.375,0.125 -0.225,0.45
  rectangle: -0.075,0.125 0.075,0.45
  rectangle: 0.225,0.125 0.375,0.45
  rectangle: 0.525,0.125 0.675,0.45
  rectangle: 0.825,0.125 0.975,0.45
  rectangle: 1.125,0.125 1.275,0.45
  rectangle: 1.425,0.125 1.575,0.45
  rectangle: 1.725,0.125 1.875,0.45
  rectangle: 2.025,0.125 2.175,0.45
  rectangle: 2.325,0.125 2.475,0.45
  rectangle: 2.625,0.125 2.775,0.45
  rectangle: 2.925,0.125 3.075,0.45
  rectangle: 3.225,0.125 3.375,0.45
  rectangle: 3.525,0.125 3.675,0.45
  lines w0.102: -4.175,1.225 -3.925,1.225 -3.875,1.175 -3.875,1.05 -3.7,1.05 -3.7,1.5 -3.525,1.5 ; -4.025,-1.751 -3.95,-1.6 -3.825,-1.6 ; -3.847,-1.789 -4.639,-1.789 -4.639,1.495 -4.268,1.495 -4.243,1.444 -4.243,0.422 -4.345,0.32 -4.345,-0.549 ccw(c-4.192,-0.549) -4.192,-0.703 -4.038,-0.703 -4.038,0.026 -3.962,0.102 3.962,0.102 4.038,0.026 4.038,-0.703 4.192,-0.703 ccw(c4.192,-0.549) 4.345,-0.549 4.345,0.32 4.243,0.422 4.243,1.444 4.268,1.495 4.639,1.495 4.639,-1.789 3.847,-1.789 ; -3.425,1.4 -3.425,1.075 -3.175,1.075 -3.175,1.4 ; -3.375,-1.6 -3.225,-1.6 ; -3.075,1.5 -2.925,1.5 ; -2.825,1.4 -2.825,1.075 -2.575,1.075 -2.575,1.4 ; -2.775,-1.6 -2.625,-1.6 ; -2.475,1.5 -2.325,1.5 ; -2.225,1.4 -2.225,1.075 -1.975,1.075 -1.975,1.4 ; -2.175,-1.6 -2.025,-1.6 ; -1.875,1.5 -1.725,1.5 ; -1.625,1.4 -1.625,1.075 -1.375,1.075 -1.375,1.4 ; -1.575,-1.6 -1.425,-1.6 ; -1.275,1.5 -1.125,1.5 ; -1.025,1.4 -1.025,1.075 -0.775,1.075 -0.775,1.4 ; -0.975,-1.6 -0.825,-1.6 ; -0.675,1.5 -0.525,1.5 ; -0.425,1.4 -0.425,1.075 -0.175,1.075 -0.175,1.4 ; -0.375,-1.6 -0.225,-1.6 ; -0.075,1.5 0.075,1.5 ; 0.175,1.4 0.175,1.075 0.425,1.075 0.425,1.4 ; 0.225,-1.6 0.375,-1.6 ; 0.525,1.5 0.675,1.5 ; 0.775,1.4 0.775,1.075 1.025,1.075 1.025,1.4 ; 0.825,-1.6 0.975,-1.6 ; 1.125,1.5 1.275,1.5 ; 1.375,1.4 1.375,1.075 1.625,1.075 1.625,1.4 ; 1.425,-1.6 1.575,-1.6 ; 1.725,1.5 1.875,1.5 ; 1.975,1.4 1.975,1.075 2.225,1.075 2.225,1.4 ; 2.025,-1.6 2.175,-1.6 ; 2.325,1.5 2.475,1.5 ; 2.575,1.4 2.575,1.075 2.825,1.075 2.825,1.4 ; 2.625,-1.6 2.775,-1.6 ; 2.925,1.5 3.075,1.5 ; 3.175,1.4 3.175,1.075 3.425,1.075 3.425,1.4 ; 3.225,-1.6 3.375,-1.6 ; 3.525,1.5 3.7,1.5 3.7,1.05 3.875,1.05 3.875,1.175 3.925,1.225 4.175,1.225 ; 3.825,-1.6 3.95,-1.6 4.025,-1.751
Top Paste:
  rectangle: -3.425,1.5 -3.175,2.1
  rectangle: -3.725,-2.05 -3.475,-1.5
  rectangle: -3.125,-2.05 -2.875,-1.5
  rectangle: -2.525,-2.05 -2.275,-1.5
  rectangle: -1.925,-2.05 -1.675,-1.5
  rectangle: -1.325,-2.05 -1.075,-1.5
  rectangle: -0.725,-2.05 -0.475,-1.5
  rectangle: -0.125,-2.05 0.125,-1.5
  rectangle: 0.475,-2.05 0.725,-1.5
  rectangle: 1.075,-2.05 1.325,-1.5
  rectangle: 1.675,-2.05 1.925,-1.5
  rectangle: 2.275,-2.05 2.525,-1.5
  rectangle: 2.875,-2.05 3.125,-1.5
  rectangle: 3.475,-2.05 3.725,-1.5
  rectangle: -2.825,1.5 -2.575,2.1
  rectangle: -2.225,1.5 -1.975,2.1
  rectangle: -1.625,1.5 -1.375,2.1
  rectangle: -1.025,1.5 -0.775,2.1
  rectangle: -0.425,1.5 -0.175,2.1
  rectangle: 0.175,1.5 0.425,2.1
  rectangle: 0.775,1.5 1.025,2.1
  rectangle: 1.375,1.5 1.625,2.1
  rectangle: 1.975,1.5 2.225,2.1
  rectangle: 2.575,1.5 2.825,2.1
  rectangle: 3.175,1.5 3.425,2.1
Top Solder:
  rectangle: -3.5,1.425 -3.1,2.175
  rectangle: -3.8,-2.125 -3.4,-1.425
  rectangle: -3.2,-2.125 -2.8,-1.425
  rectangle: -2.6,-2.125 -2.2,-1.425
  rectangle: -2,-2.125 -1.6,-1.425
  rectangle: -1.4,-2.125 -1,-1.425
  rectangle: -0.8,-2.125 -0.4,-1.425
  rectangle: -0.2,-2.125 0.2,-1.425
  rectangle: 0.4,-2.125 0.8,-1.425
  rectangle: 1,-2.125 1.4,-1.425
  rectangle: 1.6,-2.125 2,-1.425
  rectangle: 2.2,-2.125 2.6,-1.425
  rectangle: 2.8,-2.125 3.2,-1.425
  rectangle: 3.4,-2.125 3.8,-1.425
  rectangle: -2.9,1.425 -2.5,2.175
  rectangle: -2.3,1.425 -1.9,2.175
  rectangle: -1.7,1.425 -1.3,2.175
  rectangle: -1.1,1.425 -0.7,2.175
  rectangle: -0.5,1.425 -0.1,2.175
  rectangle: 0.1,1.425 0.5,2.175
  rectangle: 0.7,1.425 1.1,2.175
  rectangle: 1.3,1.425 1.7,2.175
  rectangle: 1.9,1.425 2.3,2.175
  rectangle: 2.5,1.425 2.9,2.175
  rectangle: 3.1,1.425 3.5,2.175
Mechanical 16:
  rectangle: -3.675,-1.85 -3.525,-1.648
  rectangle: -3.054,-1.84 -2.939,-1.648
  rectangle: -3.375,1.125 -3.225,1.95
  rectangle: -2.775,1.125 -2.625,1.95
  rectangle: -2.175,1.125 -2.025,1.95
  rectangle: -1.575,1.125 -1.425,1.95
  rectangle: -0.975,1.125 -0.825,1.95
  rectangle: -0.375,1.125 -0.225,1.95
  rectangle: 0.225,1.125 0.375,1.95
  rectangle: 0.825,1.125 0.975,1.95
  rectangle: 1.425,1.125 1.575,1.95
  rectangle: 2.025,1.125 2.175,1.95
  rectangle: 2.625,1.125 2.775,1.95
  rectangle: 3.225,1.125 3.375,1.95
  lines w0.102: -4.039,-1.789 3.954,-1.789 ; -3.825,-1.6 -3.375,-1.6 ; -3.525,1.5 -3.425,1.4 ; -3.225,-1.6 -2.775,-1.6 ; -3.175,1.4 -3.075,1.5 ; -2.925,1.5 -2.825,1.4 ; -2.625,-1.6 -2.175,-1.6 ; -2.575,1.4 -2.475,1.5 ; -2.325,1.5 -2.225,1.4 ; -2.025,-1.6 -1.575,-1.6 ; -1.975,1.4 -1.875,1.5 ; -1.725,1.5 -1.625,1.4 ; -1.425,-1.6 -0.975,-1.6 ; -1.375,1.4 -1.275,1.5 ; -1.125,1.5 -1.025,1.4 ; -0.825,-1.6 -0.375,-1.6 ; -0.775,1.4 -0.675,1.5 ; -0.525,1.5 -0.425,1.4 ; -0.225,-1.6 0.225,-1.6 ; -0.175,1.4 -0.075,1.5 ; 0.075,1.5 0.175,1.4 ; 0.375,-1.6 0.825,-1.6 ; 0.425,1.4 0.525,1.5 ; 0.675,1.5 0.775,1.4 ; 0.975,-1.6 1.425,-1.6 ; 1.025,1.4 1.125,1.5 ; 1.275,1.5 1.375,1.4 ; 1.575,-1.6 2.025,-1.6 ; 1.625,1.4 1.725,1.5 ; 1.875,1.5 1.975,1.4 ; 2.175,-1.6 2.625,-1.6 ; 2.225,1.4 2.325,1.5 ; 2.475,1.5 2.575,1.4 ; 2.775,-1.6 3.225,-1.6 ; 2.825,1.4 2.925,1.5 ; 3.075,1.5 3.175,1.4 ; 3.375,-1.6 3.825,-1.6 ; 3.425,1.4 3.525,1.5

## XF3B-35 [mm]
pads (35):
  rect 0.3x0.6 smd: 1(-5.1,-1.775) 3(-4.5,-1.775) 5(-3.9,-1.775) 7(-3.3,-1.775) 9(-2.7,-1.775) 11(-2.1,-1.775) 13(-1.5,-1.775) 15(-0.9,-1.775) 17(-0.3,-1.775) 19(0.3,-1.775) 21(0.9,-1.775) 23(1.5,-1.775) 25(2.1,-1.775) 27(2.7,-1.775) 29(3.3,-1.775) 31(3.9,-1.775) 33(4.5,-1.775) 35(5.1,-1.775)
  rect 0.3x0.65 smd: 2(-4.8,1.8) 4(-4.2,1.8) 6(-3.6,1.8) 8(-3,1.8) 10(-2.4,1.8) 12(-1.8,1.8) 14(-1.2,1.8) 16(-0.6,1.8) 18(0,1.8) 20(0.6,1.8) 22(1.2,1.8) 24(1.8,1.8) 26(2.4,1.8) 28(3,1.8) 30(3.6,1.8) 32(4.2,1.8) 34(4.8,1.8)
Top Overlay:
  drawing of 158 lines, arcs and shapes, not listed
Top Paste:
  rectangle: -4.925,1.5 -4.675,2.1
  rectangle: -5.225,-2.05 -4.975,-1.5
  rectangle: -4.625,-2.05 -4.375,-1.5
  rectangle: -4.025,-2.05 -3.775,-1.5
  rectangle: -3.425,-2.05 -3.175,-1.5
  rectangle: -2.825,-2.05 -2.575,-1.5
  rectangle: -2.225,-2.05 -1.975,-1.5
  rectangle: -1.625,-2.05 -1.375,-1.5
  rectangle: -1.025,-2.05 -0.775,-1.5
  rectangle: -0.425,-2.05 -0.175,-1.5
  rectangle: 0.175,-2.05 0.425,-1.5
  rectangle: 0.775,-2.05 1.025,-1.5
  rectangle: 1.375,-2.05 1.625,-1.5
  rectangle: 1.975,-2.05 2.225,-1.5
  rectangle: 2.575,-2.05 2.825,-1.5
  rectangle: 3.175,-2.05 3.425,-1.5
  rectangle: 3.775,-2.05 4.025,-1.5
  rectangle: 4.375,-2.05 4.625,-1.5
  rectangle: 4.975,-2.05 5.225,-1.5
  rectangle: -4.325,1.5 -4.075,2.1
  rectangle: -3.725,1.5 -3.475,2.1
  rectangle: -3.125,1.5 -2.875,2.1
  rectangle: -2.525,1.5 -2.275,2.1
  rectangle: -1.925,1.5 -1.675,2.1
  rectangle: -1.325,1.5 -1.075,2.1
  rectangle: -0.725,1.5 -0.475,2.1
  rectangle: -0.125,1.5 0.125,2.1
  rectangle: 0.475,1.5 0.725,2.1
  rectangle: 1.075,1.5 1.325,2.1
  rectangle: 1.675,1.5 1.925,2.1
  rectangle: 2.275,1.5 2.525,2.1
  rectangle: 2.875,1.5 3.125,2.1
  rectangle: 3.475,1.5 3.725,2.1
  rectangle: 4.075,1.5 4.325,2.1
  rectangle: 4.675,1.5 4.925,2.1
Top Solder:
  rectangle: -5,1.425 -4.6,2.175
  rectangle: -5.3,-2.125 -4.9,-1.425
  rectangle: -4.7,-2.125 -4.3,-1.425
  rectangle: -4.1,-2.125 -3.7,-1.425
  rectangle: -3.5,-2.125 -3.1,-1.425
  rectangle: -2.9,-2.125 -2.5,-1.425
  rectangle: -2.3,-2.125 -1.9,-1.425
  rectangle: -1.7,-2.125 -1.3,-1.425
  rectangle: -1.1,-2.125 -0.7,-1.425
  rectangle: -0.5,-2.125 -0.1,-1.425
  rectangle: 0.1,-2.125 0.5,-1.425
  rectangle: 0.7,-2.125 1.1,-1.425
  rectangle: 1.3,-2.125 1.7,-1.425
  rectangle: 1.9,-2.125 2.3,-1.425
  rectangle: 2.5,-2.125 2.9,-1.425
  rectangle: 3.1,-2.125 3.5,-1.425
  rectangle: 3.7,-2.125 4.1,-1.425
  rectangle: 4.3,-2.125 4.7,-1.425
  rectangle: 4.9,-2.125 5.3,-1.425
  rectangle: -4.4,1.425 -4,2.175
  rectangle: -3.8,1.425 -3.4,2.175
  rectangle: -3.2,1.425 -2.8,2.175
  rectangle: -2.6,1.425 -2.2,2.175
  rectangle: -2,1.425 -1.6,2.175
  rectangle: -1.4,1.425 -1,2.175
  rectangle: -0.8,1.425 -0.4,2.175
  rectangle: -0.2,1.425 0.2,2.175
  rectangle: 0.4,1.425 0.8,2.175
  rectangle: 1,1.425 1.4,2.175
  rectangle: 1.6,1.425 2,2.175
  rectangle: 2.2,1.425 2.6,2.175
  rectangle: 2.8,1.425 3.2,2.175
  rectangle: 3.4,1.425 3.8,2.175
  rectangle: 4,1.425 4.4,2.175
  rectangle: 4.6,1.425 5,2.175
Mechanical 16:
  rectangle: -5.175,-1.85 -5.025,-1.648
  rectangle: -4.554,-1.84 -4.439,-1.648
  rectangle: -4.875,1.125 -4.725,1.95
  rectangle: -4.275,1.125 -4.125,1.95
  rectangle: -3.675,1.125 -3.525,1.95
  rectangle: -3.075,1.125 -2.925,1.95
  rectangle: -2.475,1.125 -2.325,1.95
  rectangle: -1.875,1.125 -1.725,1.95
  rectangle: -1.275,1.125 -1.125,1.95
  rectangle: -0.675,1.125 -0.525,1.95
  rectangle: -0.075,1.125 0.075,1.95
  rectangle: 0.525,1.125 0.675,1.95
  rectangle: 1.125,1.125 1.275,1.95
  rectangle: 1.725,1.125 1.875,1.95
  rectangle: 2.325,1.125 2.475,1.95
  rectangle: 2.925,1.125 3.075,1.95
  rectangle: 3.525,1.125 3.675,1.95
  rectangle: 4.125,1.125 4.275,1.95
  rectangle: 4.725,1.125 4.875,1.95
  lines w0.102: -5.539,-1.789 5.453,-1.789 ; -5.325,-1.6 -4.875,-1.6 ; -5.025,1.5 -4.925,1.4 ; -4.725,-1.6 -4.275,-1.6 ; -4.675,1.4 -4.575,1.5 ; -4.425,1.5 -4.325,1.4 ; -4.125,-1.6 -3.675,-1.6 ; -4.075,1.4 -3.975,1.5 ; -3.825,1.5 -3.725,1.4 ; -3.525,-1.6 -3.075,-1.6 ; -3.475,1.4 -3.375,1.5 ; -3.225,1.5 -3.125,1.4 ; -2.925,-1.6 -2.475,-1.6 ; -2.875,1.4 -2.775,1.5 ; -2.625,1.5 -2.525,1.4 ; -2.325,-1.6 -1.875,-1.6 ; -2.275,1.4 -2.175,1.5 ; -2.025,1.5 -1.925,1.4 ; -1.725,-1.6 -1.275,-1.6 ; -1.675,1.4 -1.575,1.5 ; -1.425,1.5 -1.325,1.4 ; -1.125,-1.6 -0.675,-1.6 ; -1.075,1.4 -0.975,1.5 ; -0.825,1.5 -0.725,1.4 ; -0.525,-1.6 -0.075,-1.6 ; -0.475,1.4 -0.375,1.5 ; -0.225,1.5 -0.125,1.4 ; 0.075,-1.6 0.525,-1.6 ; 0.125,1.4 0.225,1.5 ; 0.375,1.5 0.475,1.4 ; 0.675,-1.6 1.125,-1.6 ; 0.725,1.4 0.825,1.5 ; 0.975,1.5 1.075,1.4 ; 1.275,-1.6 1.725,-1.6 ; 1.325,1.4 1.425,1.5 ; 1.575,1.5 1.675,1.4 ; 1.875,-1.6 2.325,-1.6 ; 1.925,1.4 2.025,1.5 ; 2.175,1.5 2.275,1.4 ; 2.475,-1.6 2.925,-1.6 ; 2.525,1.4 2.625,1.5 ; 2.775,1.5 2.875,1.4 ; 3.075,-1.6 3.525,-1.6 ; 3.125,1.4 3.225,1.5 ; 3.375,1.5 3.475,1.4 ; 3.675,-1.6 4.125,-1.6 ; 3.725,1.4 3.825,1.5 ; 3.975,1.5 4.075,1.4 ; 4.275,-1.6 4.725,-1.6 ; 4.325,1.4 4.425,1.5 ; 4.575,1.5 4.675,1.4 ; 4.875,-1.6 5.325,-1.6 ; 4.925,1.4 5.025,1.5

## XF3B-51 [mm]
pads (51):
  rect 0.3x0.6 smd: 1(-7.5,-1.775) 3(-6.9,-1.775) 5(-6.3,-1.775) 7(-5.7,-1.775) 9(-5.1,-1.775) 11(-4.5,-1.775) 13(-3.9,-1.775) 15(-3.3,-1.775) 17(-2.7,-1.775) 19(-2.1,-1.775) 21(-1.5,-1.775) 23(-0.9,-1.775) 25(-0.3,-1.775) 27(0.3,-1.775) 29(0.9,-1.775) 31(1.5,-1.775) 33(2.1,-1.775) 35(2.7,-1.775) 37(3.3,-1.775) 39(3.9,-1.775) 41(4.5,-1.775) 43(5.1,-1.775) 45(5.7,-1.775) 47(6.3,-1.775) 49(6.9,-1.775) 51(7.5,-1.775)
  rect 0.3x0.65 smd: 2(-7.2,1.8) 4(-6.6,1.8) 6(-6,1.8) 8(-5.4,1.8) 10(-4.8,1.8) 12(-4.2,1.8) 14(-3.6,1.8) 16(-3,1.8) 18(-2.4,1.8) 20(-1.8,1.8) 22(-1.2,1.8) 24(-0.6,1.8) 26(0,1.8) 28(0.6,1.8) 30(1.2,1.8) 32(1.8,1.8) 34(2.4,1.8) 36(3,1.8) 38(3.6,1.8) 40(4.2,1.8) 42(4.8,1.8) 44(5.4,1.8) 46(6,1.8) 48(6.6,1.8) 50(7.2,1.8)
Top Overlay:
  drawing of 214 lines, arcs and shapes, not listed
Top Paste:
  rectangle: -7.325,1.5 -7.075,2.1
  rectangle: -7.625,-2.05 -7.375,-1.5
  rectangle: -7.025,-2.05 -6.775,-1.5
  rectangle: -6.425,-2.05 -6.175,-1.5
  rectangle: -5.825,-2.05 -5.575,-1.5
  rectangle: -5.225,-2.05 -4.975,-1.5
  rectangle: -4.625,-2.05 -4.375,-1.5
  rectangle: -4.025,-2.05 -3.775,-1.5
  rectangle: -3.425,-2.05 -3.175,-1.5
  rectangle: -2.825,-2.05 -2.575,-1.5
  rectangle: -2.225,-2.05 -1.975,-1.5
  rectangle: -1.625,-2.05 -1.375,-1.5
  rectangle: -1.025,-2.05 -0.775,-1.5
  rectangle: -0.425,-2.05 -0.175,-1.5
  rectangle: 0.175,-2.05 0.425,-1.5
  rectangle: 0.775,-2.05 1.025,-1.5
  rectangle: 1.375,-2.05 1.625,-1.5
  rectangle: 1.975,-2.05 2.225,-1.5
  rectangle: 2.575,-2.05 2.825,-1.5
  rectangle: 3.175,-2.05 3.425,-1.5
  rectangle: 3.775,-2.05 4.025,-1.5
  rectangle: 4.375,-2.05 4.625,-1.5
  rectangle: 4.975,-2.05 5.225,-1.5
  rectangle: 5.575,-2.05 5.825,-1.5
  rectangle: 6.175,-2.05 6.425,-1.5
  rectangle: 6.775,-2.05 7.025,-1.5
  rectangle: 7.375,-2.05 7.625,-1.5
  rectangle: -6.725,1.5 -6.475,2.1
  rectangle: -6.125,1.5 -5.875,2.1
  rectangle: -5.525,1.5 -5.275,2.1
  rectangle: -4.925,1.5 -4.675,2.1
  rectangle: -4.325,1.5 -4.075,2.1
  rectangle: -3.725,1.5 -3.475,2.1
  rectangle: -3.125,1.5 -2.875,2.1
  rectangle: -2.525,1.5 -2.275,2.1
  rectangle: -1.925,1.5 -1.675,2.1
  rectangle: -1.325,1.5 -1.075,2.1
  rectangle: -0.725,1.5 -0.475,2.1
  rectangle: -0.125,1.5 0.125,2.1
  rectangle: 0.475,1.5 0.725,2.1
  rectangle: 1.075,1.5 1.325,2.1
  rectangle: 1.675,1.5 1.925,2.1
  rectangle: 2.275,1.5 2.525,2.1
  rectangle: 2.875,1.5 3.125,2.1
  rectangle: 3.475,1.5 3.725,2.1
  rectangle: 4.075,1.5 4.325,2.1
  rectangle: 4.675,1.5 4.925,2.1
  rectangle: 5.275,1.5 5.525,2.1
  rectangle: 5.875,1.5 6.125,2.1
  rectangle: 6.475,1.5 6.725,2.1
  rectangle: 7.075,1.5 7.325,2.1
Top Solder:
  rectangle: -7.4,1.425 -7,2.175
  rectangle: -7.7,-2.125 -7.3,-1.425
  rectangle: -7.1,-2.125 -6.7,-1.425
  rectangle: -6.5,-2.125 -6.1,-1.425
  rectangle: -5.9,-2.125 -5.5,-1.425
  rectangle: -5.3,-2.125 -4.9,-1.425
  rectangle: -4.7,-2.125 -4.3,-1.425
  rectangle: -4.1,-2.125 -3.7,-1.425
  rectangle: -3.5,-2.125 -3.1,-1.425
  rectangle: -2.9,-2.125 -2.5,-1.425
  rectangle: -2.3,-2.125 -1.9,-1.425
  rectangle: -1.7,-2.125 -1.3,-1.425
  rectangle: -1.1,-2.125 -0.7,-1.425
  rectangle: -0.5,-2.125 -0.1,-1.425
  rectangle: 0.1,-2.125 0.5,-1.425
  rectangle: 0.7,-2.125 1.1,-1.425
  rectangle: 1.3,-2.125 1.7,-1.425
  rectangle: 1.9,-2.125 2.3,-1.425
  rectangle: 2.5,-2.125 2.9,-1.425
  rectangle: 3.1,-2.125 3.5,-1.425
  rectangle: 3.7,-2.125 4.1,-1.425
  rectangle: 4.3,-2.125 4.7,-1.425
  rectangle: 4.9,-2.125 5.3,-1.425
  rectangle: 5.5,-2.125 5.9,-1.425
  rectangle: 6.1,-2.125 6.5,-1.425
  rectangle: 6.7,-2.125 7.1,-1.425
  rectangle: 7.3,-2.125 7.7,-1.425
  rectangle: -6.8,1.425 -6.4,2.175
  rectangle: -6.2,1.425 -5.8,2.175
  rectangle: -5.6,1.425 -5.2,2.175
  rectangle: -5,1.425 -4.6,2.175
  rectangle: -4.4,1.425 -4,2.175
  rectangle: -3.8,1.425 -3.4,2.175
  rectangle: -3.2,1.425 -2.8,2.175
  rectangle: -2.6,1.425 -2.2,2.175
  rectangle: -2,1.425 -1.6,2.175
  rectangle: -1.4,1.425 -1,2.175
  rectangle: -0.8,1.425 -0.4,2.175
  rectangle: -0.2,1.425 0.2,2.175
  rectangle: 0.4,1.425 0.8,2.175
  rectangle: 1,1.425 1.4,2.175
  rectangle: 1.6,1.425 2,2.175
  rectangle: 2.2,1.425 2.6,2.175
  rectangle: 2.8,1.425 3.2,2.175
  rectangle: 3.4,1.425 3.8,2.175
  rectangle: 4,1.425 4.4,2.175
  rectangle: 4.6,1.425 5,2.175
  rectangle: 5.2,1.425 5.6,2.175
  rectangle: 5.8,1.425 6.2,2.175
  rectangle: 6.4,1.425 6.8,2.175
  rectangle: 7,1.425 7.4,2.175
Mechanical 16:
  rectangle: -7.575,-1.85 -7.425,-1.648
  rectangle: -6.954,-1.84 -6.839,-1.648
  rectangle: -7.275,1.125 -7.125,1.95
  rectangle: -6.675,1.125 -6.525,1.95
  rectangle: -6.075,1.125 -5.925,1.95
  rectangle: -5.475,1.125 -5.325,1.95
  rectangle: -4.875,1.125 -4.725,1.95
  rectangle: -4.275,1.125 -4.125,1.95
  rectangle: -3.675,1.125 -3.525,1.95
  rectangle: -3.075,1.125 -2.925,1.95
  rectangle: -2.475,1.125 -2.325,1.95
  rectangle: -1.875,1.125 -1.725,1.95
  rectangle: -1.275,1.125 -1.125,1.95
  rectangle: -0.675,1.125 -0.525,1.95
  rectangle: -0.075,1.125 0.075,1.95
  rectangle: 0.525,1.125 0.675,1.95
  rectangle: 1.125,1.125 1.275,1.95
  rectangle: 1.725,1.125 1.875,1.95
  rectangle: 2.325,1.125 2.475,1.95
  rectangle: 2.925,1.125 3.075,1.95
  rectangle: 3.525,1.125 3.675,1.95
  rectangle: 4.125,1.125 4.275,1.95
  rectangle: 4.725,1.125 4.875,1.95
  rectangle: 5.325,1.125 5.475,1.95
  rectangle: 5.925,1.125 6.075,1.95
  rectangle: 6.525,1.125 6.675,1.95
  rectangle: 7.125,1.125 7.275,1.95
  lines w0.102: -7.939,-1.789 7.853,-1.789 ; -7.725,-1.6 -7.275,-1.6 ; -7.425,1.5 -7.325,1.4 ; -7.125,-1.6 -6.675,-1.6 ; -7.075,1.4 -6.975,1.5 ; -6.825,1.5 -6.725,1.4 ; -6.525,-1.6 -6.075,-1.6 ; -6.475,1.4 -6.375,1.5 ; -6.225,1.5 -6.125,1.4 ; -5.925,-1.6 -5.475,-1.6 ; -5.875,1.4 -5.775,1.5 ; -5.625,1.5 -5.525,1.4 ; -5.325,-1.6 -4.875,-1.6 ; -5.275,1.4 -5.175,1.5 ; -5.025,1.5 -4.925,1.4 ; -4.725,-1.6 -4.275,-1.6 ; -4.675,1.4 -4.575,1.5 ; -4.425,1.5 -4.325,1.4 ; -4.125,-1.6 -3.675,-1.6 ; -4.075,1.4 -3.975,1.5 ; -3.825,1.5 -3.725,1.4 ; -3.525,-1.6 -3.075,-1.6 ; -3.475,1.4 -3.375,1.5 ; -3.225,1.5 -3.125,1.4 ; -2.925,-1.6 -2.475,-1.6 ; -2.875,1.4 -2.775,1.5 ; -2.625,1.5 -2.525,1.4 ; -2.325,-1.6 -1.875,-1.6 ; -2.275,1.4 -2.175,1.5 ; -2.025,1.5 -1.925,1.4 ; -1.725,-1.6 -1.275,-1.6 ; -1.675,1.4 -1.575,1.5 ; -1.425,1.5 -1.325,1.4 ; -1.125,-1.6 -0.675,-1.6 ; -1.075,1.4 -0.975,1.5 ; -0.825,1.5 -0.725,1.4 ; -0.525,-1.6 -0.075,-1.6 ; -0.475,1.4 -0.375,1.5 ; -0.225,1.5 -0.125,1.4 ; 0.075,-1.6 0.525,-1.6 ; 0.125,1.4 0.225,1.5 ; 0.375,1.5 0.475,1.4 ; 0.675,-1.6 1.125,-1.6 ; 0.725,1.4 0.825,1.5 ; 0.975,1.5 1.075,1.4 ; 1.275,-1.6 1.725,-1.6 ; 1.325,1.4 1.425,1.5 ; 1.575,1.5 1.675,1.4 ; 1.875,-1.6 2.325,-1.6 ; 1.925,1.4 2.025,1.5 ; 2.175,1.5 2.275,1.4 ; 2.475,-1.6 2.925,-1.6 ; 2.525,1.4 2.625,1.5 ; 2.775,1.5 2.875,1.4 ; 3.075,-1.6 3.525,-1.6 ; 3.125,1.4 3.225,1.5 ; 3.375,1.5 3.475,1.4 ; 3.675,-1.6 4.125,-1.6 ; 3.725,1.4 3.825,1.5 ; 3.975,1.5 4.075,1.4 ; 4.275,-1.6 4.725,-1.6 ; 4.325,1.4 4.425,1.5 ; 4.575,1.5 4.675,1.4 ; 4.875,-1.6 5.325,-1.6 ; 4.925,1.4 5.025,1.5 ; 5.175,1.5 5.275,1.4 ; 5.475,-1.6 5.925,-1.6 ; 5.525,1.4 5.625,1.5 ; 5.775,1.5 5.875,1.4 ; 6.075,-1.6 6.525,-1.6 ; 6.125,1.4 6.225,1.5 ; 6.375,1.5 6.475,1.4 ; 6.675,-1.6 7.125,-1.6 ; 6.725,1.4 6.825,1.5 ; 6.975,1.5 7.075,1.4 ; 7.275,-1.6 7.725,-1.6 ; 7.325,1.4 7.425,1.5